# Altium integrated library Linear Technology Power Management Switching Regulator LTC1174-LTC3901.IntLib: 2647 symbols (part 115 of 364)
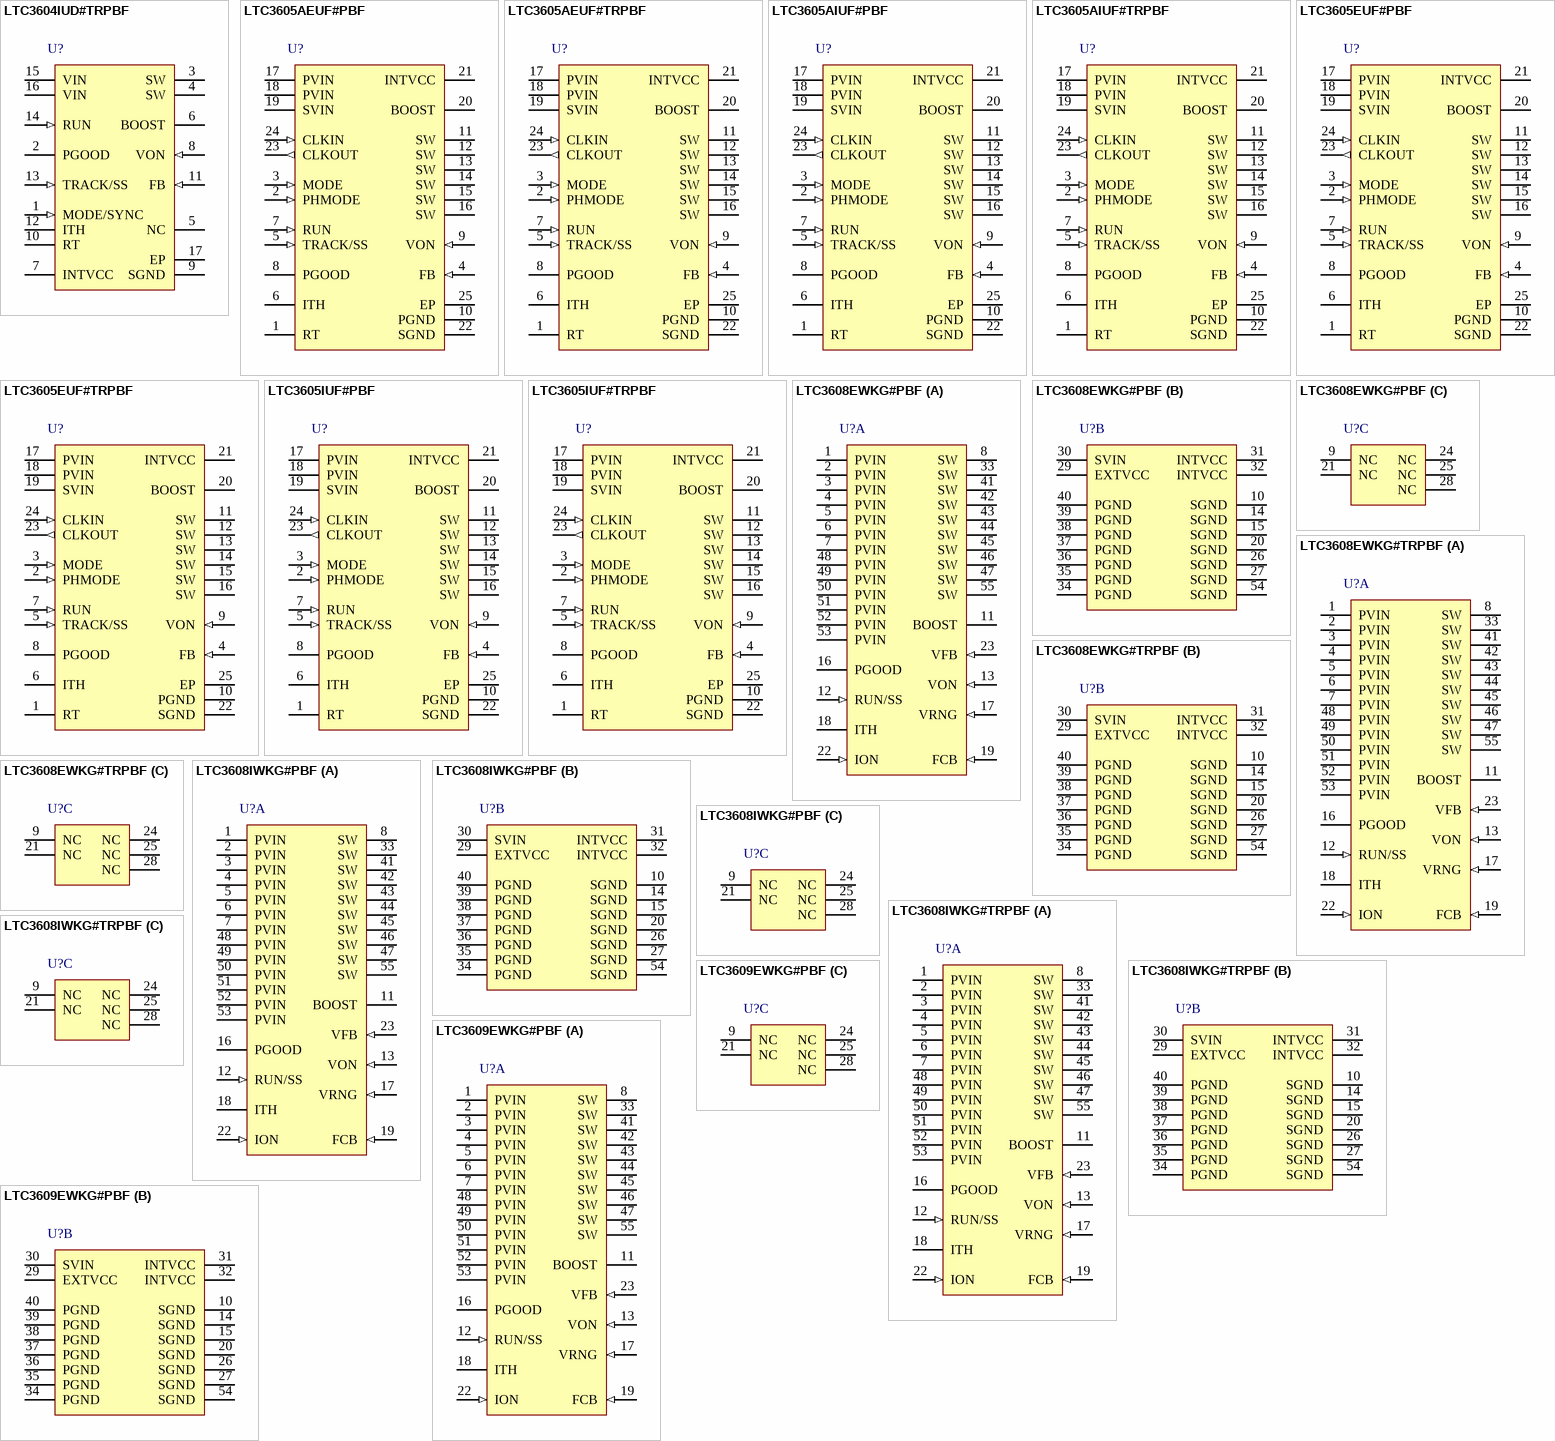
[diagram p273: symbols LTC3604IUD#TRPBF to LTC3609EWKG#PBF]

## LTC3605AIUF#PBF
designator U?
5 A Synchronous Step-Down Regulator, 24-pin QFN (UF-24), -40 to 125 degC, Pb-Free; Manufacturer: Linear Technology; PartNumber: LTC3605AIUF#PBF; Frequency Adjust Range: 800kHz - 4MHz; Number of Outputs: 1; DatasheetVersion: Rev. A; PackageVersion: Rev. B, 02/2012; PackageReference: UF24; PackageDescription: 24-Pin Plastic QFN, Body 4 x 4 mm, Pitch 0.5 mm; Supplier 1: Digi-Key; Supplier Part Number 1: LTC3605AIUF#PBF-ND; RoHS: TRUE; Mounting Technology: Surface Mount; Code_JEDEC: MO-220; ComponentLink1Description: Manufacturer URL; ComponentLink1URL: http://www.linear.com/; ComponentLink2Description: Datasheet; ComponentLink2URL: http://cds.linear.com/docs/en/datasheet/3605afa.pdf; ComponentLink3Description: Package Specification; ComponentLink3URL: http://cds.linear.com/docs/en/packaging/%28UF24%29%20QFN%2005-08-1697%20Rev%20B.pdf
footprint LT-UF-24_N (QFN, 24-Leads, Body 4.1x4.1mm, Pitch 0.5mm, Thermal Pad 2.45x2.45mm, IPC Medium Density)
footprint LT-UF-24_L (QFN, 24-Leads, Body 4.1x4.1mm, Pitch 0.5mm, Thermal Pad 2.45x2.45mm, IPC High Density)
footprint LT-UF-24_M (QFN, 24-Leads, Body 4.1x4.1mm, Pitch 0.5mm, Thermal Pad 2.45x2.45mm, IPC Low Density)
pins: 1 RT "Oscillator Frequency Programming Pin. Connect an external resistor (between 200k to 40k) from RT to SGND to program the frequency from 800kHz to 4MHz. Since the synchronization range is +/-30% of set frequency, be sure that (See Datasheet)", 2 PHMODE (in) "Control Input to Phase Selector. Determines the phase relationship between internal oscillator and CLKOUT. Tie it to INTVCC for 2-phase operation, tie it to SGND for 3-phase operation, and tie it to INTVCC/2 for 4-phase (See Datasheet)", 3 MODE (in) "Operation Mode Select. Tie this pin to INTVCC to force continuous synchronous operation at all output loads. Tying it to SGND enables discontinuous mode operation at light loads. Tying this pin to INTVCC/2 shuts off the (See Datasheet)", 4 FB (in) "Output Feedback Voltage. Input to the error amplifier that compares the feedback voltage to the internal 0.6V reference voltage. This pin is normally connected to a resistive divider from the output voltage.", 5 TRACK/SS (in) "Output Tracking and Soft-Start Pin. Allows the user to control the rise time of the output voltage. Putting a voltage below 0.6V on this pin bypasses the internal reference input to the error amplifier, instead it servos the (See Datasheet)", 6 ITH "Error Amplifier Output and Switching Regulator Compensation Point. The current comparator’s trip threshold is linearly proportional to this voltage, whose normal range is from 0.3V to 1.8V. Tying this pin to INTVC(See Datasheet)", 7 RUN (in) "Run Control Input. Enables chip operation by tying RUN above 1.2V. Tying it below 1.1V shuts down the part.", 8 PGOOD (oc) "Output Power Good with Open-Drain Logic. PGOOD is pulled to ground when the voltage on the FB pin is not within +/-10% of the internal 0.6V reference.", 9 VON (in) "On-Time Voltage Input. Voltage trip point for the on-time comparator. Tying this pin to the output voltage makes the on-time proportional to VOUT and keeps the switching frequency constant at different VOUT. However, when (See Datasheet)", 10 PGND (power) "Power Ground. Return path of internal power MOSFETs. Connect this pin to the negative terminals of the input capacitor and output capacitor. The exposed pad must be soldered to the PCB ground for electrical contact and rated (See Datasheet)", 11 SW (power) "Switch Node Connection to External Inductor. Voltage swing of SW is from a diode voltage drop below ground to PVIN.", 12 SW (power) "Switch Node Connection to External Inductor. Voltage swing of SW is from a diode voltage drop below ground to PVIN.", 13 SW (power) "Switch Node Connection to External Inductor. Voltage swing of SW is from a diode voltage drop below ground to PVIN.", 14 SW (power) "Switch Node Connection to External Inductor. Voltage swing of SW is from a diode voltage drop below ground to PVIN.", 15 SW (power) "Switch Node Connection to External Inductor. Voltage swing of SW is from a diode voltage drop below ground to PVIN.", 16 SW (power) "Switch Node Connection to External Inductor. Voltage swing of SW is from a diode voltage drop below ground to PVIN.", 17 PVIN (power) "Power VIN. Input voltage to the onchip power MOSFETs.", 18 PVIN (power) "Power VIN. Input voltage to the onchip power MOSFETs.", 19 SVIN (power) "Signal VIN. Filtered input voltage to the on-chip 3.3V regulator. Connect a (1ohm to 10ohm) resistor between SVIN and PVIN and bypass to GND with a 0.1uF capacitor.", 20 BOOST "Boosted Floating Driver Supply for Internal Top Power MOSFET. The (+) terminal of the bootstrap capacitor connects here. This pin swings from a diode voltage drop below INTVCC up to PVIN + INTVCC.", 21 INTVCC (power) "Internal 3.3V Regulator Output. The internal power drivers and control circuits are powered from this voltage. Decouple this pin to power ground with a minimum of 1uF low ESR ceramic capacitor.", 22 SGND (power) "Signal Ground Connection.", 23 CLKOUT (out) "Output Clock Signal for PolyPhase Operation. The phase of CLKOUT with respect to CLKIN is determined by the state of the PHMODE pin. CLKOUT’s peak-to-peak amplitude is INTVCC to GND.", 24 CLKIN (in) "External Synchronization Input to Phase Detector. This pin is internally terminated to SGND with 20k. The phase-locked loop will force the top power NMOS’s turn on signal to be synchronized with the rising edge of th(See Datasheet)", 25 EP (power) "Power Ground. Return path of internal power MOSFETs. Connect this pin to the negative terminals of the input capacitor and output capacitor. The exposed pad must be soldered to the PCB ground for electrical contact and rated (See Datasheet)"